# Altium schematic symbol library AB0016.01.A.1.SchLib: 1 symbol
Pins are listed as number, name and electrical type; pins without a type are passive.

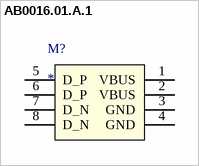
[diagram p0: symbol AB0016.01.A.1]

## AB0016.01.A.1
designator M?
pins: 1 VBUS (power), 2 VBUS (power), 3 GND (power), 4 GND (power), 5 D_P, 6 D_P, 7 D_N, 8 D_N